# Altium footprint library ReactionLamp.PcbLib: 16 footprints
Each footprint in its own frame and in the unit in brackets; x right, y up, seen from the top. Pads: shape width x height; smd on the part's side, far side on the other; paste and mask are expansions set on the pad; w line width, h text height; cw(c..) or ccw(c..) is an arc to the next point about the centre after c.
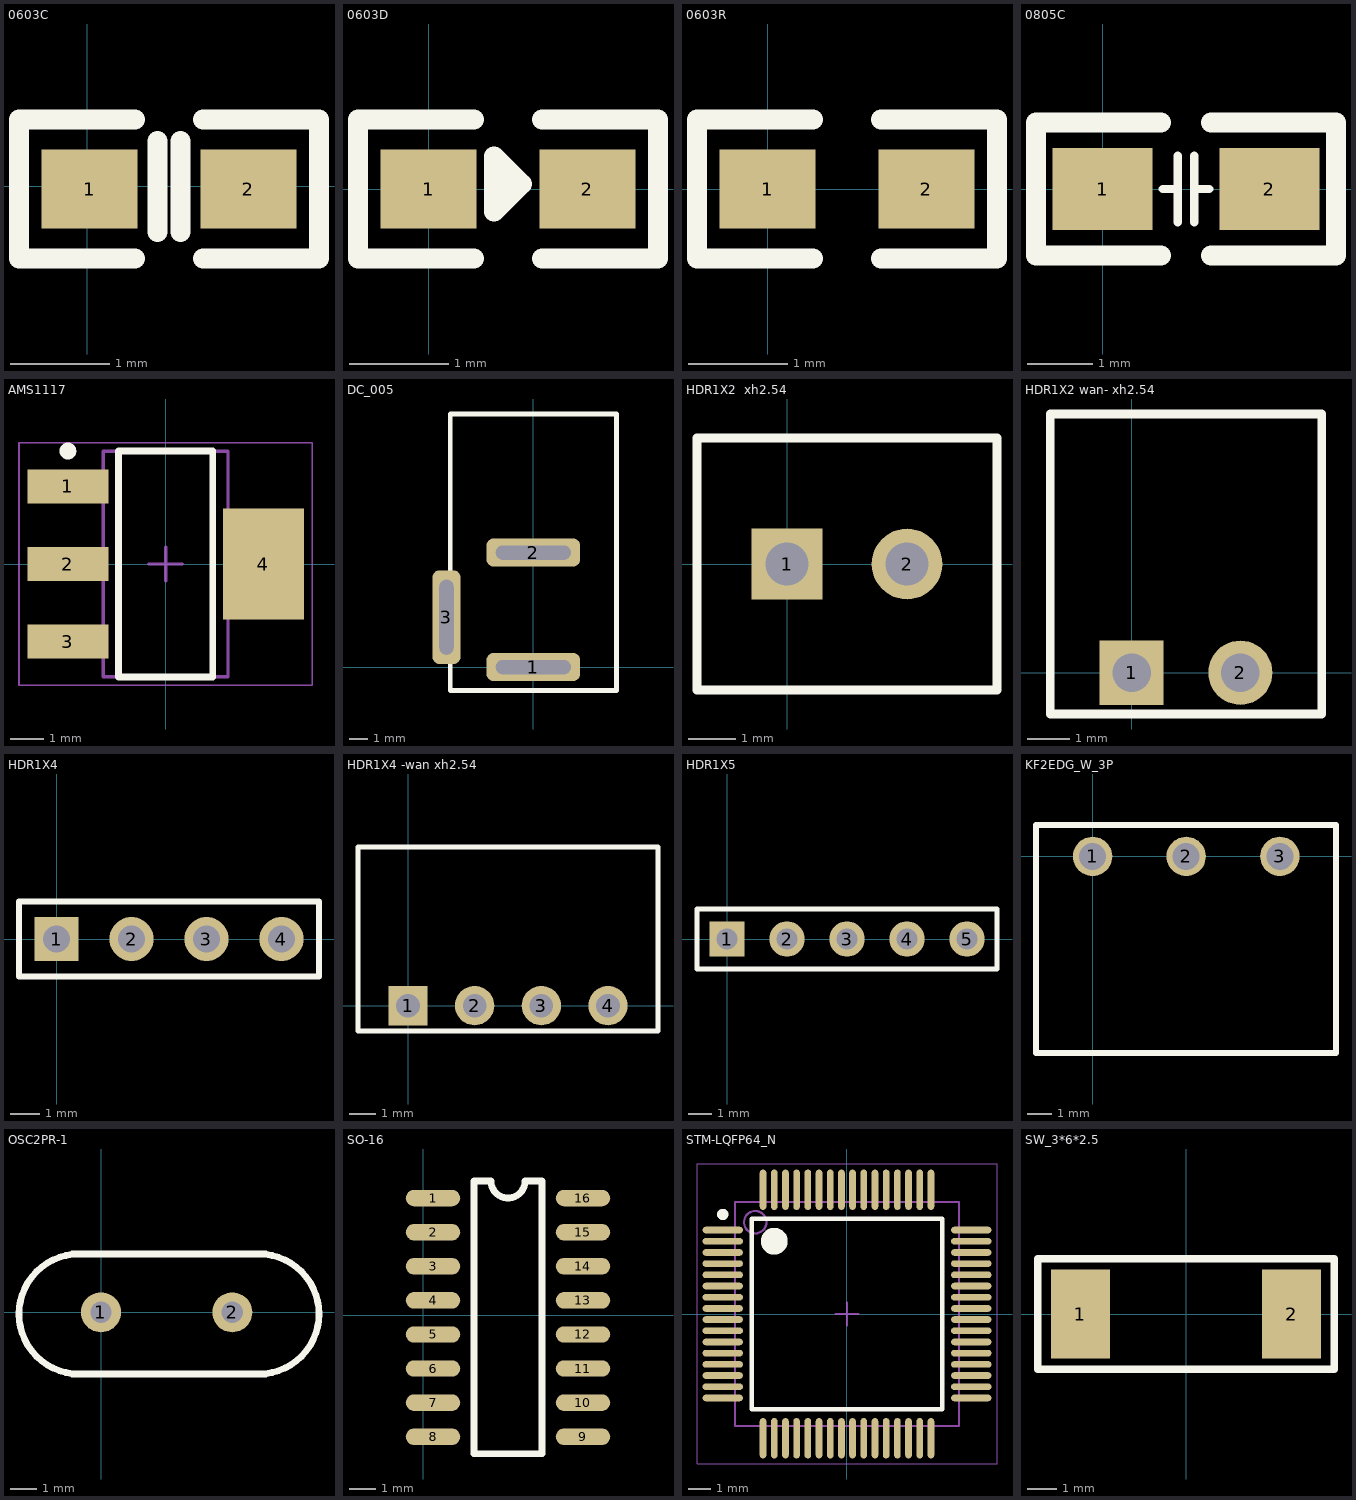
[diagram p0: the footprints below, top view; thin cyan lines are the x and y axes]

## 0603C [mm]
pads (2):
  rect 0.965x0.8 smd: 1(0.025,-0.025) 2(1.625,-0.025)
Top Overlay:
  lines w0.2: 0.483,-0.725 -0.686,-0.725 -0.686,0.674 0.483,0.675 ; 0.711,-0.457 0.711,0.457 ; 0.94,-0.457 0.94,0.457 ; 1.168,-0.725 2.336,-0.725 ; 1.168,0.675 2.337,0.675 2.337,-0.725 ; 2.336,-0.725 2.337,-0.725

## 0603D [mm]
pads (2):
  rect 0.965x0.8 smd: 1(0,0) 2(1.6,0)
Top Overlay:
  lines w0.2: 0.457,-0.7 -0.711,-0.7 -0.711,0.7 0.457,0.7 ; 0.737,0.051 0.94,0.051 ; 1.143,-0.7 2.311,-0.7 ; 1.143,0.7 2.311,0.7 2.311,-0.7 ; 0.94,0.051 0.66,0.33 0.66,-0.229 0.94,0.051 ; 2.311,-0.7 2.311,-0.7

## 0603R [mm]
pads (2):
  rect 0.965x0.8 smd: 1(0,0) 2(1.6,0)
Top Overlay:
  lines w0.2: 0.457,-0.7 -0.711,-0.7 -0.711,0.7 0.457,0.7 ; 1.143,-0.7 2.311,-0.7 ; 1.143,0.7 2.311,0.7 2.311,-0.7 ; 2.311,-0.7 2.311,-0.7

## 0805C [mm]
pads (2):
  rect 1.524x1.25 smd: 1(0,0) 2(2.54,0)
Top Overlay:
  lines w0.127: 0.914,0 1.143,0 ; 1.143,-0.508 1.143,0.508 ; 1.397,-0.508 1.397,0.508 ; 1.397,0 1.626,0
  lines w0.305: 0.889,-1.016 -1.016,-1.016 -1.016,1.016 0.889,1.016 ; 1.651,-1.016 3.556,-1.016 3.556,1.016 1.651,1.016

## AMS1117 [mm]
pads (4):
  rect 2.4x1 smd: 1(-2.9,2.3) 2(-2.9,0) 3(-2.9,-2.3)
  rect 2.4x3.3 smd: 4(2.9,0)
Top Overlay:
  circle w0.25: c-2.9,3.35 r0.125
  lines w0.2: -1.4,-3.35 -1.4,3.35 1.4,3.35 1.4,-3.35 -1.4,-3.35
Mechanical 13:
  lines w0.1: -1.85,-3.35 -1.85,3.35 1.85,3.35 1.85,-3.35 -1.85,-3.35
Mechanical 15:
  lines w0.05: -4.35,-3.6 -4.35,3.6 4.35,3.6 4.35,-3.6 -4.35,-3.6
  lines w0.1: -0.5,0 0.5,0 ; 0,-0.5 0,0.5
3D body: height 1.8, standoff 0.02, extent -1.85,-3.35 1.85,3.35

## DC_005 [mil]
pads (3):
  rrect50% 200x60 hole 30 slot 160 at 0 deg: 1(0,0) 2(0,244.09)
  rrect50% 60x200 hole 30 slot 160 at 90 deg: 3(-185.04,106.3)
Top Overlay:
  lines w10: 175,-50 -177.17,-50 -177.17,539.37 175,539.37 ; 177.17,-50 177.17,539.37

## HDR1X2  xh2.54 [mm] "Connector; Header; 4 Position"
pads (2):
  rect 1.5x1.5 hole 0.9: 1(0,0)
  round 1.5 hole 0.9: 2(2.54,0)
Top Overlay:
  lines w0.2: -1.905,-2.667 -1.905,2.667 4.445,2.667 4.445,-2.667 -1.905,-2.667

## HDR1X2 wan- xh2.54 [mm] "Connector; Header; 4 Position"
pads (2):
  rect 1.5x1.5 hole 0.9: 1(0,0)
  round 1.5 hole 0.9: 2(2.54,0)
Top Overlay:
  lines w0.2: -1.905,-0.965 -1.905,6.045 4.445,6.045 4.445,-0.965 -1.905,-0.965

## HDR1X4 [mm] "Connector; Header; 4 Position"
pads (4):
  rect 1.5x1.5 hole 0.9: 1(0,0)
  round 1.5 hole 0.9: 2(2.54,0) 3(5.08,0) 4(7.62,0)
Top Overlay:
  lines w0.2: -1.27,-1.27 -1.27,1.27 8.89,1.27 8.89,-1.27 -1.27,-1.27

## HDR1X4 -wan xh2.54 [mm] "Connector; Header; 4 Position"
pads (4):
  rect 1.5x1.5 hole 0.9: 1(0,0)
  round 1.5 hole 0.9: 2(2.54,0) 3(5.08,0) 4(7.62,0)
Top Overlay:
  lines w0.2: -1.905,-0.965 9.525,-0.965 9.525,6.045 -1.905,6.045 -1.905,-0.965

## HDR1X5 [mm] "Connector; Header; 5 Position"
pads (5):
  rect 1.5x1.5 hole 0.9: 1(0,0)
  round 1.5 hole 0.9: 2(2.54,0) 3(5.08,0) 4(7.62,0) 5(10.16,0)
Top Overlay:
  lines w0.2: -1.27,-1.27 11.43,-1.27 11.43,1.27 -1.27,1.27 -1.27,-1.27

## KF2EDG_W_3P [mm]
height 7
pads (3):
  round 1.6 hole 1.1: 1(0,0) 2(3.81,0) 3(7.62,0)
Top Overlay:
  lines w0.254: -2.305,-8.001 9.906,-8.001 9.906,1.27 -2.305,1.27 ; -2.305,-8 -2.305,1.2

## OSC2PR-1 [mil]
pads (2):
  round 60 hole 32: 1(-0.55,0.16) 2(196.45,0.16)
Top Overlay:
  lines w10: -43.55,-92.34 246.45,-92.34 ; -43.55,87.66 246.45,87.66 ; -33.55,-92.33 cw(c-33.55,-2.33) -33.55,87.67 ; 236.45,-92.33 ccw(c236.45,-2.33) 236.45,87.67

## SO-16 [mil]
pads (16):
  oval 80x24 smd: 1(14,172) 2(14,122) 3(14,72) 4(14,22) 5(14,-28) 6(14,-78) 7(14,-128) 8(14,-178) 9(234,-178) 10(234,-128) 11(234,-78) 12(234,-28) 13(234,22) 14(234,72) 15(234,122) 16(234,172)
Top Overlay:
  lines w10: 74,-203 74,197 99,197 ccw(c124,197) 149,197 174,197 174,-203 74,-203

## STM-LQFP64_N [mm] "Thin QFP, 64-Leads, Body 10x10mm, Pitch 0.5mm, IPC Medium Density"
height 1.6
pads (64):
  oval 1.8x0.3 smd: 1(-5.55,3.75) 2(-5.55,3.25) 3(-5.55,2.75) 4(-5.55,2.25) 5(-5.55,1.75) 6(-5.55,1.25) 7(-5.55,0.75) 8(-5.55,0.25) 9(-5.55,-0.25) 10(-5.55,-0.75) 11(-5.55,-1.25) 12(-5.55,-1.75) 13(-5.55,-2.25) 14(-5.55,-2.75) 15(-5.55,-3.25) 16(-5.55,-3.75) 33(5.55,-3.75) 34(5.55,-3.25) 35(5.55,-2.75) 36(5.55,-2.25) 37(5.55,-1.75) 38(5.55,-1.25) 39(5.55,-0.75) 40(5.55,-0.25) 41(5.55,0.25) 42(5.55,0.75) 43(5.55,1.25) 44(5.55,1.75) 45(5.55,2.25) 46(5.55,2.75) 47(5.55,3.25) 48(5.55,3.75)
  oval 0.3x1.8 smd: 17(-3.75,-5.55) 18(-3.25,-5.55) 19(-2.75,-5.55) 20(-2.25,-5.55) 21(-1.75,-5.55) 22(-1.25,-5.55) 23(-0.75,-5.55) 24(-0.25,-5.55) 25(0.25,-5.55) 26(0.75,-5.55) 27(1.25,-5.55) 28(1.75,-5.55) 29(2.25,-5.55) 30(2.75,-5.55) 31(3.25,-5.55) 32(3.75,-5.55) 49(3.75,5.55) 50(3.25,5.55) 51(2.75,5.55) 52(2.25,5.55) 53(1.75,5.55) 54(1.25,5.55) 55(0.75,5.55) 56(0.25,5.55) 57(-0.25,5.55) 58(-0.75,5.55) 59(-1.25,5.55) 60(-1.75,5.55) 61(-2.25,5.55) 62(-2.75,5.55) 63(-3.25,5.55) 64(-3.75,5.55)
Top Overlay:
  circle w0.25: c-5.55,4.45 r0.125
  circle w0.6: c-3.25,3.25 r0.3
  lines w0.2: -4.25,-4.25 -4.25,4.25 4.25,4.25 4.25,-4.25 -4.25,-4.25
Mechanical 13:
  circle w0.1: c-4.1,4.1 r0.5
  lines w0.1: -5,-5 -5,5 5,5 5,-5 -5,-5
Mechanical 15:
  lines w0.05: -6.7,-6.7 -6.7,6.7 6.7,6.7 6.7,-6.7 -6.7,-6.7
  lines w0.1: -0.5,0 0.5,0 ; 0,-0.5 0,0.5
3D body: height 1.6, standoff 0.05, extent -5,-5 5,5

## SW_3*6*2.5 [mil]
pads (2):
  rect 80x120 smd: 1(-142.56,0) 2(142.56,0)
Top Overlay:
  lines w10: -200,-74.8 -200,74.8 200,74.8 200,-74.8 -200,-74.8